# EAGLE library part SEMTECH_SX1236 (library low-gain-radio)
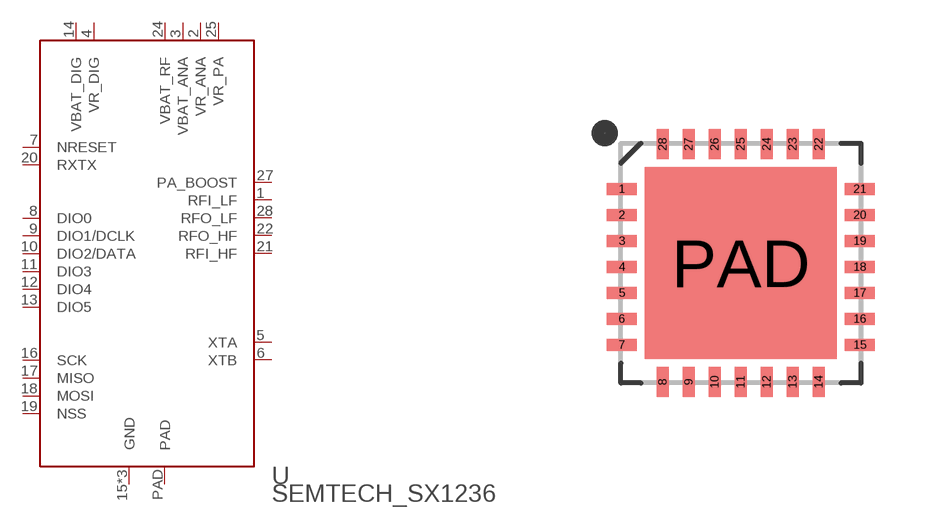
[diagram p11: symbol with the pads of QFN28; footprint QFN28]

Designator prefix U

## SEMTECH_SX1236  [QFN28]
1  RFI_LF
2  VR_ANA  pwr
3  VBAT_ANA  pwr
4  VR_DIG  pwr
5  XTA
6  XTB
7  NRESET  in
8  DIO0
9  DIO1/DCLK
10  DIO2/DATA
11  DIO3
12  DIO4
13  DIO5
14  VBAT_DIG  pwr
15  GND  pwr
16  SCK  in
17  MISO  out
18  MOSI  in
19  NSS  in
20  RXTX  out
21  RFI_HF
22  RFO_HF
23  GND  pwr
24  VBAT_RF  pwr
25  VR_PA  pwr
26  GND  pwr
27  PA_BOOST
28  RFO_LF
PAD  PAD  pwr

## Footprint QFN28 (pad centres in mm)
smd 0.75 x 0.3: 1 -2.975,1.95; 2 -2.975,1.3; 3 -2.975,0.65; 4 -2.975,0; 5 -2.975,-0.65; 6 -2.975,-1.3; 7 -2.975,-1.95; 15 2.975,-1.95; 16 2.975,-1.3; 17 2.975,-0.65; 18 2.975,0; 19 2.975,0.65; 20 2.975,1.3; 21 2.975,1.95
smd 0.3 x 0.75: 8 -1.95,-2.875; 9 -1.3,-2.875; 10 -0.65,-2.875; 11 0,-2.875; 12 0.65,-2.875; 13 1.3,-2.875; 14 1.95,-2.875; 22 1.95,3.075; 23 1.3,3.075; 24 0.65,3.075; 25 0,3.075; 26 -0.65,3.075; 27 -1.3,3.075; 28 -1.95,3.075
smd 4.8 x 4.8: PAD 0,0.1